# Altium integrated library OpAmp.IntLib: 3 symbols
Pins are listed as number, name and electrical type; pins without a type are passive.

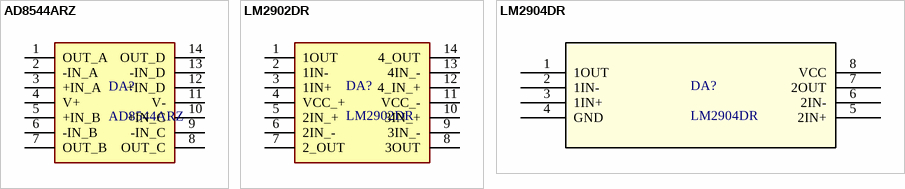
[diagram p0: symbols AD8544ARZ to LM2904DR]

## AD8544ARZ
designator DA?
footprint AD8544ARZ
pins: 1 OUT_A, 2 -IN_A, 3 +IN_A, 4 V+, 5 +IN_B, 6 -IN_B, 7 OUT_B, 8 OUT_C, 9 -IN_C, 10 +IN_C, 11 V-, 12 +IN_D, 13 -IN_D, 14 OUT_D

## LM2902DR
designator DA?
footprint SOIC127P600x175-14N
pins: 1 1OUT, 2 1IN-, 3 1IN+, 4 VCC_+, 5 2IN_+, 6 2IN_-, 7 2_OUT, 8 3OUT, 9 3IN_-, 10 3IN_+, 11 VCC_-, 12 4_IN_+, 13 4IN_-, 14 4_OUT

## LM2904DR
designator DA?
footprint LM2904DR
pins: 1 1OUT, 2 1IN-, 3 1IN+, 4 GND (power), 5 2IN+, 6 2IN-, 7 2OUT, 8 VCC (power)